# EAGLE library part HI1-0201HS-5 (library Intersil_By_element14_Batch_1)
CMOS Analog Switch
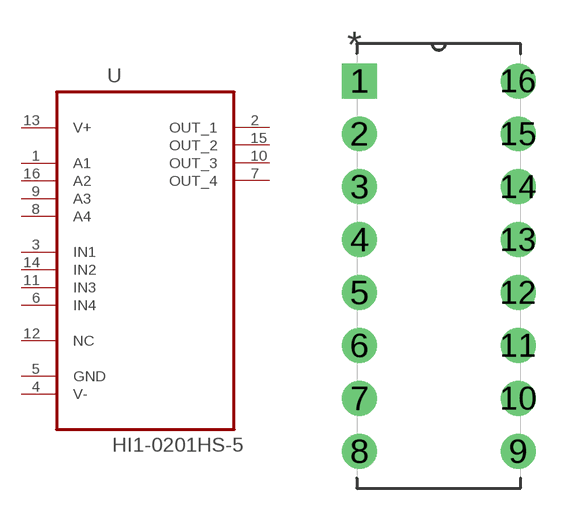
[diagram p115: symbol with the pads of DIP254P762X508-16; footprint DIP254P762X508-16]

Designator prefix U

## HI1-0201HS-5 (MPN: HI1-0201HS-5; OC_FARNELL: -; OC_NEWARK: 06F6238; PACKAGE: PDIP-16; SUPPLIER: Intersil)  [DIP254P762X508-16]
1  A1  in
2  OUT_1  out
3  IN1  in
4  V-  pwr
5  GND  pas
6  IN4  in
7  OUT_4  out
8  A4  in
9  A3  in
10  OUT_3  out
11  IN3  in
12  NC  nc
13  V+  pwr
14  IN2  in
15  OUT_2  out
16  A2  in

## Footprint DIP254P762X508-16 (pad centres in mm)
drill 1.118 square: 1 -7.62,17.78
drill 1.118: 2 -7.62,15.24; 3 -7.62,12.7; 4 -7.62,10.16; 5 -7.62,7.62; 6 -7.62,5.08; 7 -7.62,2.54; 8 -7.62,0; 9 0,0; 10 0,2.54; 11 0,5.08; 12 0,7.62; 13 0,10.16; 14 0,12.7; 15 0,15.24; 16 0,17.78